# Altium schematic symbol library ST-025BH.Schlib: 1 symbol
Pins are listed as number, name and electrical type; pins without a type are passive.

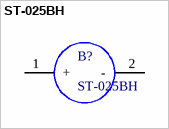
[diagram p0: symbol ST-025BH]

## ST-025BH
designator B?
Speakers & Transducers 85dB 100mA 3.6volts 2700Hz
pins: 1 +, 2 -